# Altium schematic symbol library HPZR-C21-QX.SchLib: 1 symbol
Pins are listed as number, name and electrical type; pins without a type are passive.

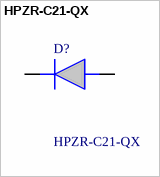
[diagram p0: symbol HPZR-C21-QX]

## HPZR-C21-QX
designator D?
vp_HPZR-Q_SER - High power voltage regulator diodes@en-us; Manufacturer_Name: Nexperia; Geometry.Height: 1.1mm; Mouser Part Number: 771-HPZR-C21-QX; Mouser Price/Stock: https://www.mouser.co.uk/ProductDetail/Nexperia/HPZR-C21-QX?qs=By6Nw2ByBD1nxsxdKWCsgg%3D%3D; Manufacturer_Part_Number: HPZR-C21-QX; Datasheet Link: https://assets.nexperia.com/documents/data-sheet/HPZR-Q_SER.pdf
footprint HPZRC21QX
pins: 1 K, 2 A